# EAGLE library part PIC10F222 (library PIC10F222)
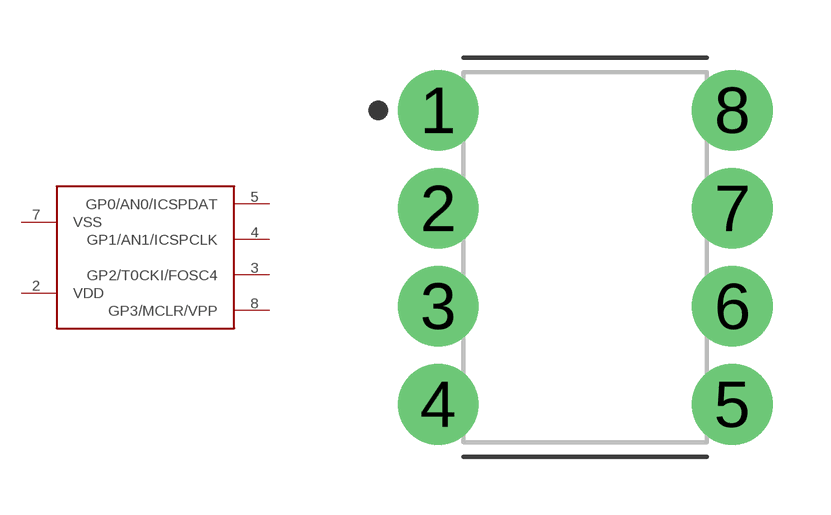
[diagram p0: symbol with the pads of DIP762W53P254L955H330Q8B; footprint DIP762W53P254L955H330Q8B]

Designator prefix -

## PIC10F222PIC10F222  [DIP762W53P254L955H330Q8B]
2  VDD
3  GP2/T0CKI/FOSC4
4  GP1/AN1/ICSPCLK
5  GP0/AN0/ICSPDAT
7  VSS
8  GP3/MCLR/VPP

## Footprint DIP762W53P254L955H330Q8B (pad centres in mm)
8-DIP, 2.54 mm (0.10 in) pitch, 7.62 mm (0.30 in) span, 9.55 X 6.25 X 3.30 mm body 8-pin DIP package with 2.54 mm (0.10 in) pitch, 7.62 mm (0.30 in) span with body size 9.55 X 6.25 X 3.30 mm
drill 0.835 pad 2.088: 1 -3.81,3.81; 2 -3.81,1.27; 3 -3.81,-1.27; 4 -3.81,-3.81; 5 3.81,-3.81; 6 3.81,-1.27; 7 3.81,1.27; 8 3.81,3.81